# Altium footprint library CSP2-28_OV9712.PcbLib: 1 footprints
Each footprint in its own frame and in the unit in brackets; x right, y up, seen from the top. Pads: shape width x height; smd on the part's side, far side on the other; paste and mask are expansions set on the pad; w line width, h text height; cw(c..) or ccw(c..) is an arc to the next point about the centre after c.
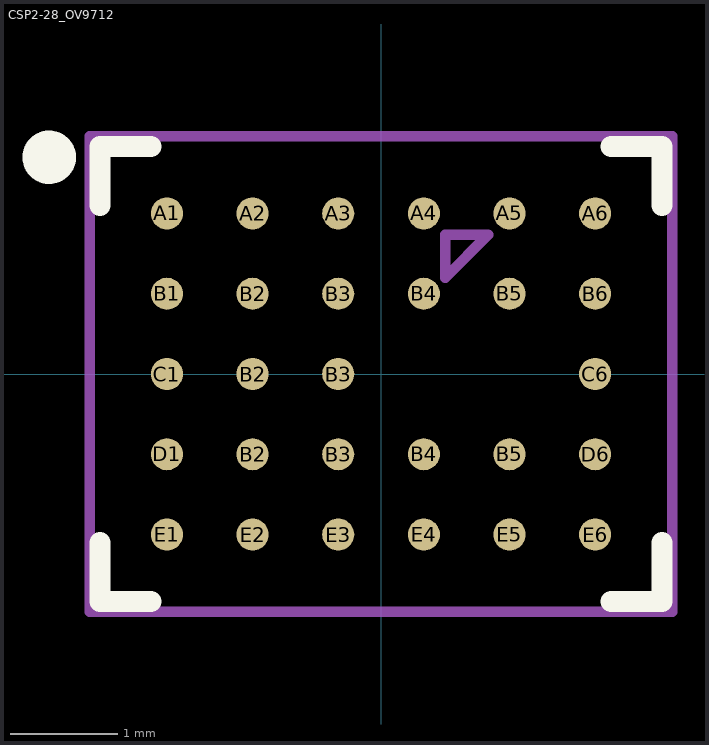
[diagram p0: the footprint, top view; thin cyan lines are the x and y axes]

## CSP2-28_OV9712 [mm]
pads (28):
  round 0.3 smd mask+0.051: A1(-2,1.5) A2(-1.2,1.5) A3(-0.4,1.5) A4(0.4,1.5) A5(1.2,1.5) A6(2,1.5) B1(-2,0.75) B2(-1.2,-0.75) B2(-1.2,0) B2(-1.2,0.75) B3(-0.4,-0.75) B3(-0.4,0) B3(-0.4,0.75) B4(0.4,-0.75) B4(0.4,0.75) B5(1.2,-0.75) B5(1.2,0.75) B6(2,0.75) C1(-2,0) C6(2,0) D1(-2,-0.75) D6(2,-0.75) E1(-2,-1.5) E2(-1.2,-1.5) E3(-0.4,-1.5) E4(0.4,-1.5) E5(1.2,-1.5) E6(2,-1.5)
Top Overlay:
  circle w0.25: c-3.1,2.025 r0.125
  lines w0.2: -2.625,-1.575 -2.625,-2.125 -2.15,-2.125 ; -2.625,1.575 -2.625,2.125 -2.15,2.125 ; 2.15,-2.125 2.625,-2.125 2.625,-1.575 ; 2.15,2.125 2.625,2.125 2.625,1.575
Mechanical 13:
  lines w0.1: -2.72,-2.22 2.72,-2.22 2.72,2.22 -2.72,2.22 -2.72,-2.22 ; 0.6,0.9 0.6,1.3 1,1.3 0.6,0.9